# Altium schematic symbol library Tensility_Barrel_Jacks.SchLib: 1 symbol
Pins are listed as number, name and electrical type; pins without a type are passive.

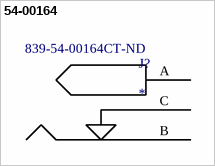
[diagram p0: symbol 54-00164]

## 54-00164
designator J?  Supplier Part Number 1: 839-54-00164CT-ND
Power Barrel Connector Jack 2.10mm ID (0.083"), 5.50mm OD (0.217") Surface Mount, Right Angle; Manufacturer: Tensility; Manufacturer Part Number: 54-00164; Supplier 1: Digikey; RoHS: No; Category: Connectors; Stock 1: 4776; Pricing 1: 1=0.86, 10=0.73, 25=0.684, 50=0.6514, 100=0.6202 (USD); ComponentLink1URL: http://www.tensility.com/pdffiles/54-00164.pdf?src-supplier=Digikey; ComponentLink1Description: http://www.tensility.com/pdffiles/54-00164.pdf?src-supplier=Digikey; ComponentLink2URL: https://datasheet.octopart.com/54-00164-Tensility-datasheet-189118339.pdf?src-supplier=Master+Electronics; ComponentLink2Description: https://datasheet.octopart.com/54-00164-Tensility-datasheet-189118339.pdf?src-supplier=Master+Electronics
footprint 54-00164 (Power Barrel Connector Jack 2.10mm ID (0.083"), 5.50mm OD (0.217") Surface Mount, Right Angle)
pins: A Pin/Center (power), B (power) "DC decoupling capacitor", C Sheath/Outer (power) "DC decoupling capacitor"